# EAGLE library part IPS1-105-01-L-D-RA (library con-samtec-ips1)
RECEPTACAL
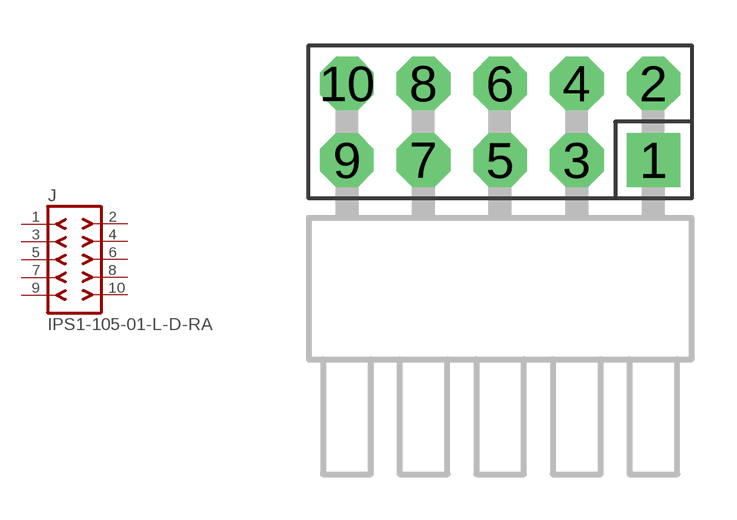
[diagram p2: symbol with the pads of IPS1-105-RA; footprint IPS1-105-RA]

Designator prefix J

## IPS1-105-01-L-D-RA  [IPS1-105-RA]
1  1  pas
2  2  pas
3  3  pas
4  4  pas
5  5  pas
6  6  pas
7  7  pas
8  8  pas
9  9  pas
10  10  pas

## Footprint IPS1-105-RA (pad centres in mm)
RECEPTACAL
drill 0.914 pad 1.778 square: 1 5.08,-1.27
drill 0.914 pad 1.778 octagon: 2 5.08,1.27; 3 2.54,-1.27; 4 2.54,1.27; 5 0,-1.27; 6 0,1.27; 7 -2.54,-1.27; 8 -2.54,1.27; 9 -5.08,-1.27; 10 -5.08,1.27